# Altium footprint library Controle1.PcbLib: 2 footprints
Each footprint in its own frame and in the unit in brackets; x right, y up, seen from the top. Pads: shape width x height; smd on the part's side, far side on the other; paste and mask are expansions set on the pad; w line width, h text height; cw(c..) or ccw(c..) is an arc to the next point about the centre after c.
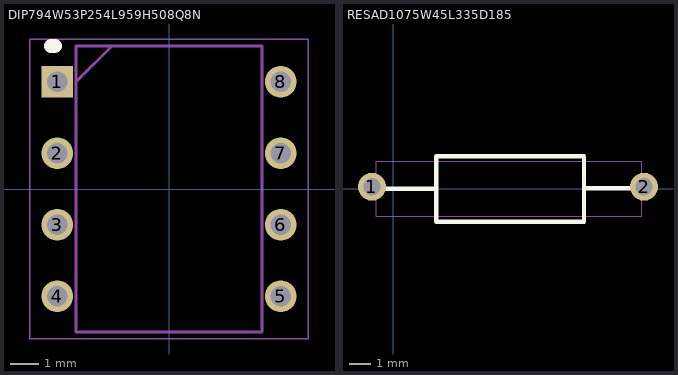
[diagram p0: the footprints below, top view; thin cyan lines are the x and y axes]

## DIP794W53P254L959H508Q8N [mm]
pads (8):
  rect 1.13x1.13 / inner round 1.13 / far side rect 1.13x1.13 hole 0.73: 1(-3.97,3.81)
  round 1.13 hole 0.73: 2(-3.97,1.27) 3(-3.97,-1.27) 4(-3.97,-3.81) 5(3.97,-3.81) 6(3.97,-1.27) 7(3.97,1.27) 8(3.97,3.81)
Top Overlay:
  lines w0.508: -4.191,5.08 -4.064,5.08
Mechanical 15:
  lines w0.1: -3.3,3.81 -2.03,5.08 ; -3.3,-5.08 3.3,-5.08 3.3,5.08 -3.3,5.08 -3.3,-5.08
Mechanical 20:
  lines w0.05: -4.945,-5.33 4.945,-5.33 4.945,5.33 -4.945,5.33 -4.945,-5.33
3D body "LM741CN_NOPB.stp": height 4.21, standoff -3.37, extent -4.102,-4.635 4.102,4.636
3D body: height 0.25, standoff 0, extent 0.508,-1.778 0.508,-1.778
3D body: height 0.25, standoff 0, extent 0.508,-1.778 0.508,-1.778

## RESAD1075W45L335D185 [mm]
pads (2):
  round 1.3 hole 0.8: 1(-0.98,0.1) 2(11.67,0.1)
Top Overlay:
  lines w0.2: -0.895,0 1.955,0 ; 8.875,0.03 11.725,0.03 ; 2.01,-1.53 2.01,1.52 8.875,1.52 8.875,-1.53 2.01,-1.53
Mechanical 15:
  lines w0.1: -0.88,0 1.98,0 ; 8.85,0.03 11.645,0.06 ; 1.98,-1.53 1.98,1.52 8.85,1.52 8.85,-1.53 1.98,-1.53
Mechanical 20:
  lines w0.05: -0.775,-1.275 -0.775,1.275 11.575,1.275 11.575,-1.275 -0.775,-1.275
3D body "User Library-200R.STEP": height 4.38, standoff -5, extent -1.39,-1.785 12.06,1.965